# Altium schematic symbol library SCH - CONNECTORS - 5 PIN.SCHLIB: 1 symbol
Pins are listed as number, name and electrical type; pins without a type are passive.

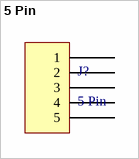
[diagram p0: symbol 5 Pin]

## 5 Pin
designator J?
footprint JST BM05B-GHS-TBT (JST GH Series 1.25mm pitch, top entry connector)
pins: 1, 2, 3, 4, 5